# Altium schematic symbol library GT_16u2_Rev2.SchLib: 2 symbols
Pins are listed as number, name and electrical type; pins without a type are passive.

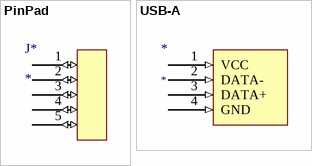
[diagram p0: symbols PinPad to USB-A]

## PinPad
designator J*
footprint PinPad
pins: 1 (io), 2 (io), 3 (io), 4 (io), 5 (io)

## USB-A
designator *
footprint USB A
pins: 1 VCC (in), 2 DATA- (in), 3 DATA+ (in), 4 GND (in)